# EAGLE library part ADG1421 (library Fitch_Eagle_Library)
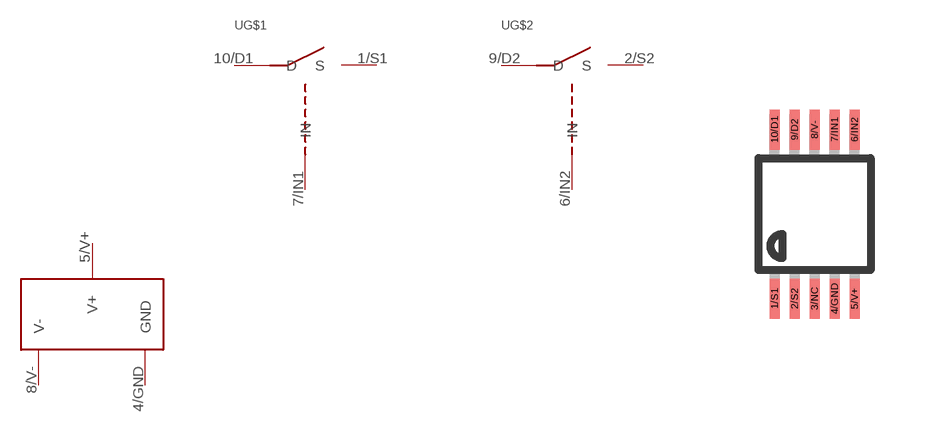
[diagram p16: symbol with the pads of ADG1421; footprint ADG1421]

Designator prefix -; gates G$1=ADG44X G$2=ADG44X G$3=ADG1421_POWER

## ADG1421  [ADG1421]
1/S1  G$1:S
2/S2  G$2:S
4/GND  G$3:GND
5/V+  G$3:V+
6/IN2  G$2:IN
7/IN1  G$1:IN
8/V-  G$3:V-
9/D2  G$2:D
10/D1  G$1:D

## Footprint ADG1421 (pad centres in mm)
smd 0.25 x 1: 1/S1 -1,-2.113; 2/S2 -0.5,-2.113; 3/NC 0,-2.113; 4/GND 0.5,-2.113; 5/V+ 1,-2.113; 6/IN2 1,2.113; 7/IN1 0.5,2.113; 8/V- 0,2.113; 9/D2 -0.5,2.113; 10/D1 -1,2.113